# Altium footprint library CAPAE1030X1270N.PcbLib: 1 footprints
Each footprint in its own frame and in the unit in brackets; x right, y up, seen from the top. Pads: shape width x height; smd on the part's side, far side on the other; paste and mask are expansions set on the pad; w line width, h text height; cw(c..) or ccw(c..) is an arc to the next point about the centre after c.
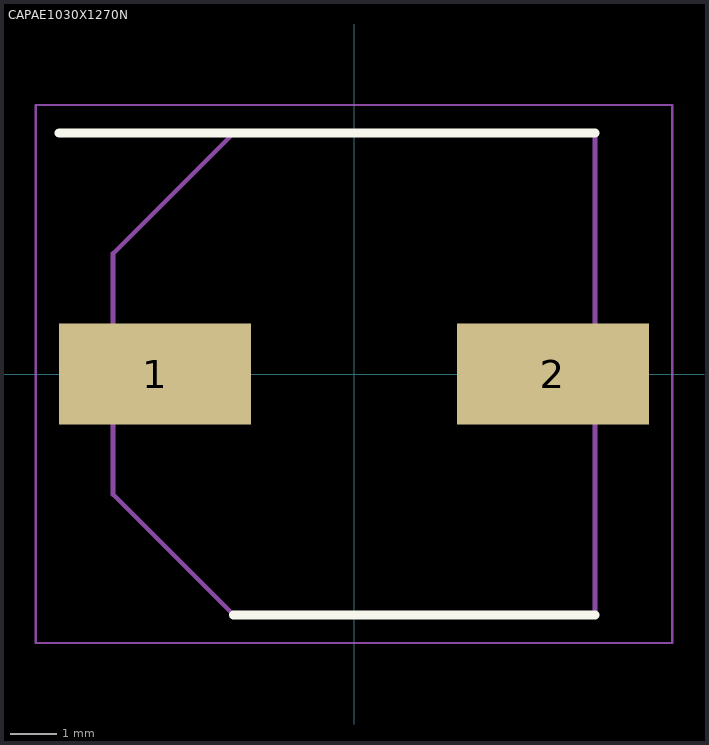
[diagram p0: the footprint, top view; thin cyan lines are the x and y axes]

## CAPAE1030X1270N [mm]
pads (2):
  rect 4.1x2.15 smd: 1(-4.25,0) 2(4.25,0)
Top Overlay:
  lines w0.2: -6.3,5.15 5.15,5.15 ; -2.575,-5.15 5.15,-5.15
Mechanical 15:
  lines w0.1: -5.15,-2.575 -5.15,2.575 -2.575,5.15 5.15,5.15 5.15,-5.15 -2.575,-5.15 -5.15,-2.575
Mechanical 20:
  lines w0.05: -6.8,-5.75 6.8,-5.75 6.8,5.75 -6.8,5.75 -6.8,-5.75
3D body "A781MS107M1JLAS030.stp": height 5.8, standoff -4.65, extent -10,-3.376 10,3.376